# Altium schematic symbol library D_USB_ESD_SOT23-6.Schlib: 1 symbol
Pins are listed as number, name and electrical type; pins without a type are passive.

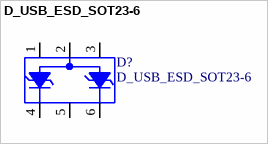
[diagram p0: symbol D_USB_ESD_SOT23-6]

## D_USB_ESD_SOT23-6
designator D?
pins: 1 NC, 2 GND, 3 NC2, 4 C2, 5 GND, 6 C1